# EAGLE library part ESP32-U4WDH (library ESP32-U4WDH)
WiFi Development Tools (802.11) SMD IC WiFi Single Core BT Combo Source: Datasheet <https://espressif.com/sites/default/files/documentation/esp32_datasheet_en.pdf>
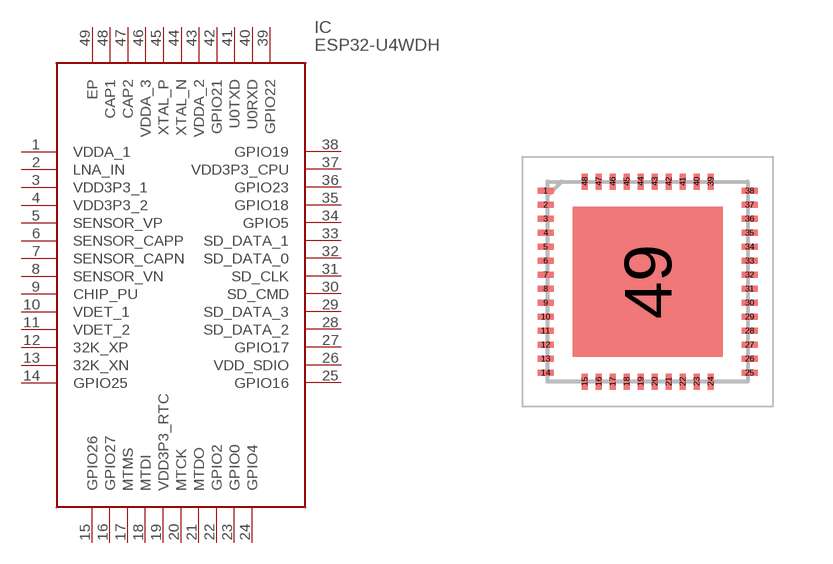
[diagram p0: symbol with the pads of QFN35P500X500X90-49N; footprint QFN35P500X500X90-49N]

Designator prefix IC

## ESP32-U4WDH (Description: WiFi Development Tools (802.11) SMD IC WiFi Single Core BT Combo; Height: 0.9mm; Manufacturer_Name: Espressif Systems; Manufacturer_Part_Number: ESP32-U4WDH; Mouser_Part_Number: 356-ESP32-U4WDH; Mouser_Price-Stock: https://www.mouser.co.uk/ProductDetail/Espressif-Systems/ESP32-U4WDH?qs=GBLSl2AkirunIR6VFFVeEA%3D%3D)  [QFN35P500X500X90-49N]
1  VDDA_1
2  LNA_IN
3  VDD3P3_1
4  VDD3P3_2
5  SENSOR_VP
6  SENSOR_CAPP
7  SENSOR_CAPN
8  SENSOR_VN
9  CHIP_PU
10  VDET_1
11  VDET_2
12  32K_XP
13  32K_XN
14  GPIO25
15  GPIO26
16  GPIO27
17  MTMS
18  MTDI
19  VDD3P3_RTC
20  MTCK
21  MTDO
22  GPIO2
23  GPIO0
24  GPIO4
25  GPIO16
26  VDD_SDIO
27  GPIO17
28  SD_DATA_2
29  SD_DATA_3
30  SD_CMD
31  SD_CLK
32  SD_DATA_0
33  SD_DATA_1
34  GPIO5
35  GPIO18
36  GPIO23
37  VDD3P3_CPU
38  GPIO19
39  GPIO22
40  U0RXD
41  U0TXD
42  GPIO21
43  VDDA_2
44  XTAL_N
45  XTAL_P
46  VDDA_3
47  CAP2
48  CAP1
49  EP

## Footprint QFN35P500X500X90-49N (pad centres in mm)
QFN48 (5x5 mm) height 0.9
smd 0.4 x 0.15: 1 -2.55,2.275; 2 -2.55,1.925; 3 -2.55,1.575; 4 -2.55,1.225; 5 -2.55,0.875; 6 -2.55,0.525; 7 -2.55,0.175; 8 -2.55,-0.175; 9 -2.55,-0.525; 10 -2.55,-0.875; 11 -2.55,-1.225; 12 -2.55,-1.575; 13 -2.55,-1.925; 14 -2.55,-2.275; 25 2.55,-2.275; 26 2.55,-1.925; 27 2.55,-1.575; 28 2.55,-1.225; 29 2.55,-0.875; 30 2.55,-0.525; 31 2.55,-0.175; 32 2.55,0.175; 33 2.55,0.525; 34 2.55,0.875; 35 2.55,1.225; 36 2.55,1.575; 37 2.55,1.925; 38 2.55,2.275
smd 0.15 x 0.4: 15 -1.575,-2.5; 16 -1.225,-2.5; 17 -0.875,-2.5; 18 -0.525,-2.5; 19 -0.175,-2.5; 20 0.175,-2.5; 21 0.525,-2.5; 22 0.875,-2.5; 23 1.225,-2.5; 24 1.575,-2.5; 39 1.575,2.5; 40 1.225,2.5; 41 0.875,2.5; 42 0.525,2.5; 43 0.175,2.5; 44 -0.175,2.5; 45 -0.525,2.5; 46 -0.875,2.5; 47 -1.225,2.5; 48 -1.575,2.5
smd 3.75 x 3.75: 49 0,0